# Altium footprint library Jumper.PcbLib: 3 footprints
Each footprint in its own frame and in the unit in brackets; x right, y up, seen from the top. Pads: shape width x height; smd on the part's side, far side on the other; paste and mask are expansions set on the pad; w line width, h text height; cw(c..) or ccw(c..) is an arc to the next point about the centre after c.
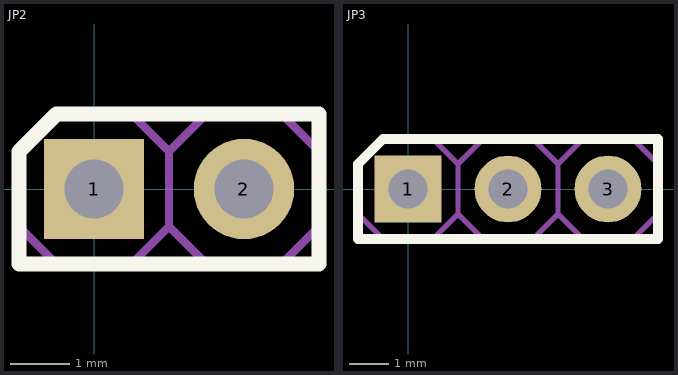
[diagram p0: the footprints below, top view; thin cyan lines are the x and y axes]

## JP2 [mm]
height 8.54
pads (2):
  rect 1.7x1.7 hole 1: 1(0,0)
  round 1.7 hole 1: 2(2.54,0)
Top Overlay:
  lines w0.25: -1.27,-1.27 -1.27,0.635 -0.635,1.27 3.81,1.27 3.81,-1.27 -0.635,-1.27 -1.27,-1.27
Mechanical 1:
  lines w0.13: 1.27,-0.635 1.27,0.635 ; 1.27,-0.635 0.635,-1.27 -0.635,-1.27 -1.27,-0.635 -1.27,0.635 -0.635,1.27 0.635,1.27 1.27,0.635 ; 1.27,-0.635 1.905,-1.27 3.175,-1.27 3.81,-0.635 3.81,0.635 3.175,1.27 1.905,1.27 1.27,0.635
  text ".Designator" at -0.508,1.905 h1.5
  text ".Comment" at -0.508,-2.794 h1.5
  text "1" at -2.667,-0.762 h1.5

## JP3 [mm]
height 8.54
pads (3):
  rect 1.7x1.7 hole 1: 1(0,0)
  round 1.7 hole 1: 2(2.54,0) 3(5.08,0)
Top Overlay:
  lines w0.25: -1.27,-1.27 -1.27,0.635 -0.635,1.27 6.35,1.27 6.35,-1.27 -0.635,-1.27 -1.27,-1.27
Mechanical 1:
  lines w0.13: 1.27,-0.635 1.27,0.635 ; 1.27,-0.635 0.635,-1.27 -0.635,-1.27 -1.27,-0.635 -1.27,0.635 -0.635,1.27 0.635,1.27 1.27,0.635 ; 1.27,-0.635 1.905,-1.27 3.175,-1.27 3.81,-0.635 ; 1.27,0.635 1.905,1.27 3.175,1.27 3.81,0.635 ; 3.81,-0.635 3.81,0.635 ; 3.81,-0.635 4.445,-1.27 5.715,-1.27 6.35,-0.635 6.35,0.635 5.715,1.27 4.445,1.27 3.81,0.635
  text ".Designator" at -0.508,1.905 h1.5
  text ".Comment" at -0.508,-2.794 h1.5
  text "1" at -2.667,-0.762 h1.5

## PCBComponent_1 [mm]